# Altium integrated library MY_INT_LIB.IntLib: 13 symbols
Pins are listed as number, name and electrical type; pins without a type are passive.

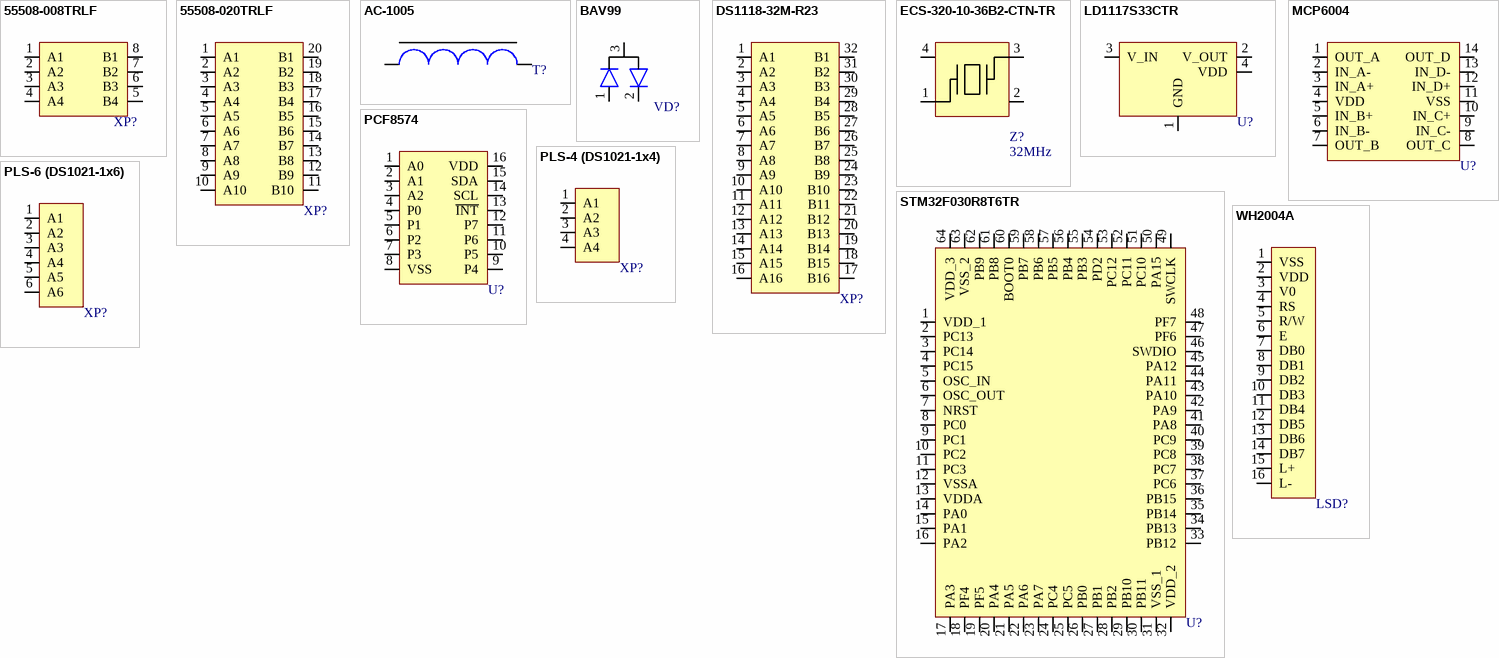
[diagram p0: symbols 55508-008TRLF to WH2004A]

## 55508-008TRLF
designator XP?  (value not drawn)
Board to Board, Receptacle, Surface Mount, Double row, 8 Positions, 2mm (0.079inch), Vertical.; Manufacturer: Amphenol FCI; Datasheet: https://cdn.amphenol-cs.com/media/wysiwyg/files/documentation/datasheet/boardwiretoboard/bwb_minitek2mm_receptacle.pdf; HelpURL: https://eu.mouser.com/ProductDetail/Amphenol-FCI/55508-008TRLF?qs=u4%252BeTlRBLCQJeJ23kDZ66A%3D%3D; Product Category: Connectors
footprint 55508-008TRLF
pins: 1 A1, 2 A2, 3 A3, 4 A4, 5 B4, 6 B3, 7 B2, 8 B1

## 55508-020TRLF
designator XP?  (value not drawn)
Board to Board, Receptacle, Surface Mount, Double row, 20 Positions, 2mm (0.079inch), Vertical.; Manufacturer: Amphenol FCI; Datasheet: https://cdn.amphenol-cs.com/media/wysiwyg/files/documentation/datasheet/boardwiretoboard/bwb_minitek2mm_receptacle.pdf; HelpURL: https://eu.mouser.com/ProductDetail/Amphenol-FCI/55508-020TRLF?qs=u4%252BeTlRBLCTe691%252BtU6gFA%3D%3D; Product Category: Connectors
footprint 55508-020TRLF
pins: 1 A1, 2 A2, 3 A3, 4 A4, 5 A5, 6 A6, 7 A7, 8 A8, 9 A9, 10 A10, 11 B10, 12 B9, 13 B8, 14 B7, 15 B6, 16 B5, 17 B4, 18 B3, 19 B2, 20 B1

## AC-1005
designator T?  (value not drawn)
Current Transformer, primary current: 5A; Manufacturer: Talema; Analogue: CST-1005(https://eu.mouser.com/datasheet/2/410/CST_1005-1892657.pdf); Datasheet: https://static.chipdip.ru/lib/884/DOC003884697.pdf; HelpURL: https://www.chipdip.ru/product/ac-1005; Product Category: Current Transformers
footprint AC-1005
pins: 1 (power), 2 (power)

## BAV99
designator VD?  (value not drawn)
High-speed switching diode; Manufacturer: Nexperia; Datasheet: https://eu.mouser.com/datasheet/2/916/BAV99_SER-1370693.pdf; HelpURL: https://eu.mouser.com/ProductDetail/Nexperia/BAV99235?qs=me8TqzrmIYWUP4h8SbZlfQ%3D%3D; Package/Case: SOT-23; Product Category: Diodes
footprint SOT-23-3
pins: 1, 2, 3

## DS1118-32M-R23
designator XP?  (value not drawn)
DIN 41612 Connector; Manufacturer: Connfly; Analogue: HARTING 09221326951(https://eu.mouser.com/ProductDetail/HARTING/09221326951?qs=Afqhj6cPmO9f0oVZo6yWiA%3D%3D); Datasheet: http://en.connfly.group/static/upload/file/pdf/DS1118.pdf; HelpURL: https://www.chipdip.by/product/din41612r-ds1118-32m-r23; Product Category: Connectors
footprint DS1118-32M-R23
pins: 1 A1, 2 A2, 3 A3, 4 A4, 5 A5, 6 A6, 7 A7, 8 A8, 9 A9, 10 A10, 11 A11, 12 A12, 13 A13, 14 A14, 15 A15, 16 A16, 17 B16, 18 B15, 19 B14, 20 B13, 21 B12, 22 B11, 23 B10, 24 B9, 25 B8, 26 B7, 27 B6, 28 B5, 29 B4, 30 B3, 31 B2, 32 B1

## ECS-320-10-36B2-CTN-TR
designator Z?  value 32MHz  (hidden comment: ECS-320-10-36B2-CTN-TR)
Crystal 32.000 MHz 10 pF +/-10 +/-20 -40 +85 C +/-2 ppm Max.; Manufacturer: ECS; Package/Case: 2520; HelpURL: https://eu.mouser.com/ProductDetail/ECS/ECS-320-10-36B2-CTN-TR?qs=QNEnbhJQKvbusIFiAH6chw%3D%3D; Temperature: -40...+85°C; Datasheet: https://eu.mouser.com/datasheet/2/122/ECX_2236B2-2400583.pdf; Product Category: Crystals
footprint OSC: 2520
pins: 1, 2, 3, 4

## LD1117S33CTR
designator U?, comment MCP600LD1117S33CTR4  (value not drawn)
LDO Voltage Regulator 3.3V 0.8A Positive; Manufacturer: STMicroelectronics; Datasheet: https://eu.mouser.com/datasheet/2/389/cd00000544-1795431.pdf; HelpURL: https://eu.mouser.com/ProductDetail/STMicroelectronics/LD1117S33CTR?qs=8u%2FLf1IQwKF9meFZLHfRog%3D%3D; Package/Case: SOT-223-3; Product Category: Voltage Regulators
footprint SOT-223-3
pins: 1 GND (power), 2 V_OUT (power), 3 V_IN (power), 4 VDD (power)

## MCP6004
designator U?  (value not drawn)
1 MHz, Low-Power Op Amp; Manufacturer: Microchip; Datasheet: https://eu.mouser.com/ProductDetail/Microchip-Technology-Atmel/MCP6004-I-SL?qs=n%2FfJlMG9rCZ2%2F%2FCryvZ52w%3D%3D; HelpURL: https://eu.mouser.com/ProductDetail/Microchip-Technology-Atmel/MCP6004-I-SL?qs=n%2FfJlMG9rCZ2%2F%2FCryvZ52w%3D%3D; Package/Case: SOIC-14; Product Category: Operational Amplifiers
footprint SOIC-14
pins: 1 OUT_A, 2 IN_A-, 3 IN_A+, 4 VDD (power), 5 IN_B+, 6 IN_B-, 7 OUT_B, 8 OUT_C, 9 IN_C-, 10 IN_C+, 11 VSS (power), 12 IN_D+, 13 IN_D-, 14 OUT_D

## PCF8574
designator U?  (value not drawn)
1 MHz, Low-Power Op Amp; Manufacturer: NXP; Datasheet: https://eu.mouser.com/datasheet/2/302/PCF8574_PCF8574A-1127673.pdf; HelpURL: https://eu.mouser.com/ProductDetail/NXP-Semiconductors/PCF8574T-3518?qs=LOCUfHb8d9srwcgHHpXqQw%3D%3D; Package/Case: SOIC-16; Product Category: I/O Expanders
footprint SOIC-16
pins: 1 A0, 2 A1, 3 A2, 4 P0 (power), 5 P1, 6 P2, 7 P3, 8 VSS, 9 P4, 10 P5, 11 P6 (power), 12 P7, 13 ~{INT}, 14 SCL, 15 SDA, 16 VDD

## PLS-4 (DS1021-1x4)
designator XP?, comment PLS-6 (DS1021-1x6)  (value not drawn)
Board to Board, Surface Mount, Single row, 6 Positions, 2.54mm, Vertical.; Manufacturer: Connfly; Datasheet: https://static.chipdip.ru/lib/977/DOC005977245.pdf; HelpURL: https://www.chipdip.by/product/pls-4; Product Category: Connectors
footprint PLS-4 (DS1021-1x4)
pins: 1 A1, 2 A2, 3 A3, 4 A4

## PLS-6 (DS1021-1x6)
designator XP?  (value not drawn)
Board to Board, Surface Mount, Single row, 6 Positions, 2.54mm, Vertical.; Manufacturer: Connfly; Datasheet: https://static.chipdip.ru/lib/977/DOC005977245.pdf; HelpURL: https://www.chipdip.by/product/pls-6; Product Category: Connectors
footprint PLS-6 (DS1021-1x6)
pins: 1 A1, 2 A2, 3 A3, 4 A4, 5 A5, 6 A6

## STM32F030R8T6TR
designator U?  (value not drawn)
MCU Mainstream Arm Cortex-M0 Value line MCU 64 Kbytes of Flash , 48 MHz CPU; Manufacturer: STMicroelectronics; Datasheet: https://www.st.com/resource/en/datasheet/stm32f030r8.pdf; HelpURL: https://eu.mouser.com/ProductDetail/STMicroelectronics/STM32F030R8T6TR?qs=s5SkPsIz10%252B%252B1w15QiyTpQ%3D%3D; Package/Case: LQFP-64; Product Category: Microcontrollers
footprint LQFP-64
pins: 1 VDD_1 (power), 2 PC13, 3 PC14, 4 PC15, 5 OSC_IN, 6 OSC_OUT, 7 NRST, 8 PC0, 9 PC1, 10 PC2, 11 PC3, 12 VSSA (power), 13 VDDA (power), 14 PA0, 15 PA1, 16 PA2, 17 PA3, 18 PF4, 19 PF5, 20 PA4, 21 PA5, 22 PA6, 23 PA7, 24 PC4, 25 PC5, 26 PB0, 27 PB1, 28 PB2, 29 PB10, 30 PB11, 31 VSS_1 (power), 32 VDD_2 (power), 33 PB12, 34 PB13, 35 PB14, 36 PB15, 37 PC6, 38 PC7, 39 PC8, 40 PC9, 41 PA8, 42 PA9, 43 PA10, 44 PA11, 45 PA12, 46 SWDIO, 47 PF6, 48 PF7, 49 SWCLK, 50 PA15, 51 PC10, 52 PC11, 53 PC12, 54 PD2, 55 PB3, 56 PB4, 57 PB5, 58 PB6, 59 PB7, 60 BOOT0, 61 PB8, 62 PB9, 63 VSS_2 (power), 64 VDD_3 (power)

## WH2004A
designator LSD?  (value not drawn)
LCD Character Display  20x4; Manufacturer: Winstar; Datasheet: https://www.winstar.com.tw/uploads/files/e97d4fb1a675762f600be546831f7c7f.pdf; HelpURL: https://www.winstar.com.tw/ru/products/character-lcd-display-module/wh2004a.html; Product Category: LCD
footprint WH2004A
pins: 1 VSS, 2 VDD, 3 V0, 4 RS (power), 5 R/W, 6 E, 7 DB0, 8 DB1, 9 DB2, 10 DB3, 11 DB4 (power), 12 DB5, 13 DB6, 14 DB7, 15 L+, 16 L-